# Altium schematic symbol library env_sens_sch.SchLib: 18 symbols
Pins are listed as number, name and electrical type; pins without a type are passive.

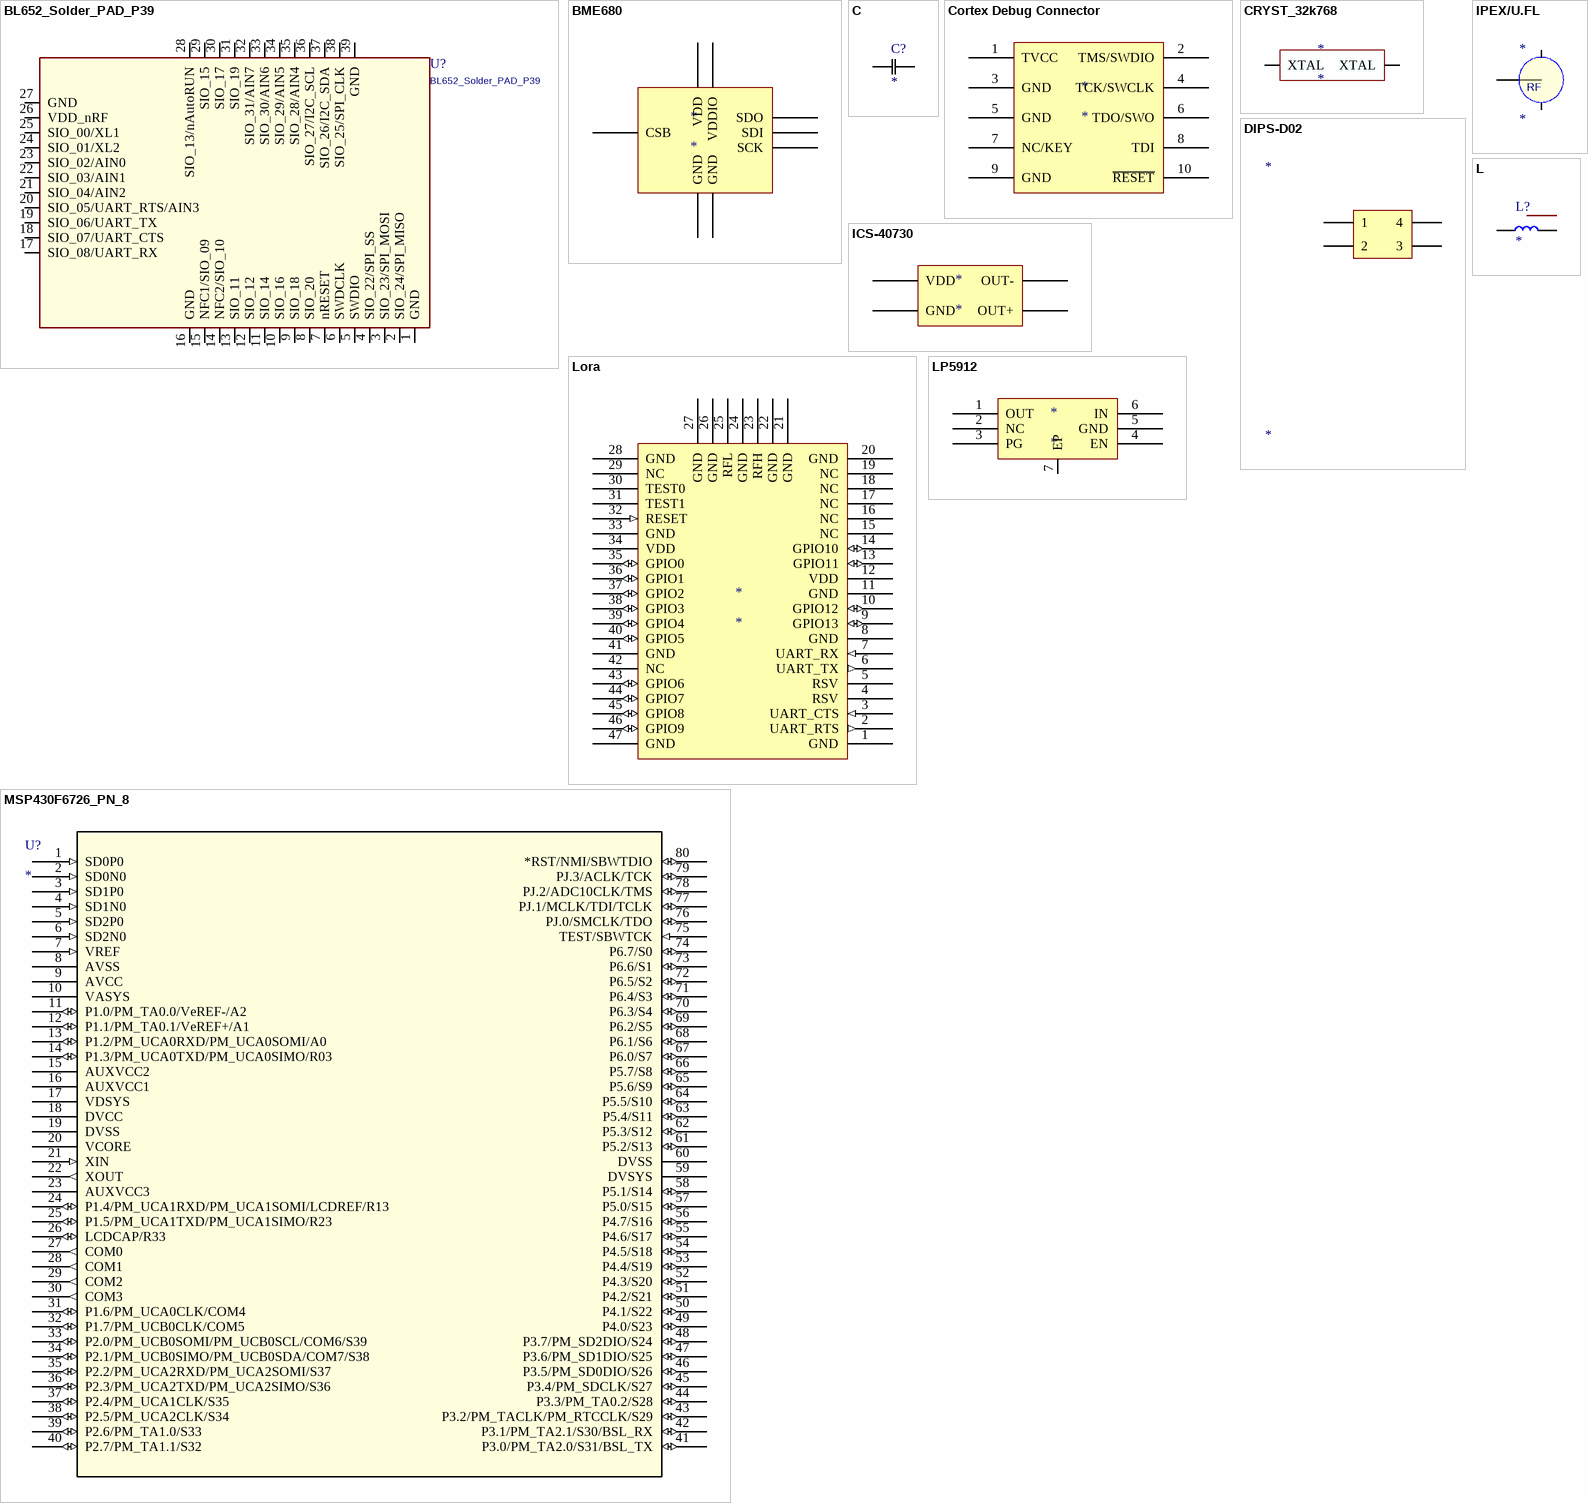
[diagram p0: symbols BL652_Solder_PAD_P39 to MSP430F6726_PN_8]

## BL652_Solder_PAD_P39
designator U?
BL652 Solder PAD; E Number: ?
footprint XCVR_BL652-SA-01
pins: 1 GND, 2 SIO_24/SPI_MISO, 3 SIO_23/SPI_MOSI, 4 SIO_22/SPI_SS, 5 SWDIO, 6 SWDCLK, 7 nRESET, 8 SIO_20, 9 SIO_18, 10 SIO_16, 11 SIO_14, 12 SIO_12, 13 SIO_11, 14 NFC2/SIO_10, 15 NFC1/SIO_09, 16 GND, 17 SIO_08/UART_RX, 18 SIO_07/UART_CTS, 19 SIO_06/UART_TX, 20 SIO_05/UART_RTS/AIN3, 21 SIO_04/AIN2, 22 SIO_03/AIN1, 23 SIO_02/AIN0, 24 SIO_01/XL2, 25 SIO_00/XL1, 26 VDD_nRF, 27 GND, 28 SIO_13/nAutoRUN, 29 SIO_15, 30 SIO_17, 31 SIO_19, 32 SIO_31/AIN7, 33 SIO_30/AIN6, 34 SIO_29/AIN5, 35 SIO_28/AIN4, 36 SIO_27/I2C_SCL, 37 SIO_26/I2C_SDA, 38 SIO_25/SPI_CLK, 39 GND

## BME680
designator *
footprint BME680
pins: 1 GND, 2 CSB, 3 SDI, 4 SCK, 5 SDO, 6 VDDIO, 7 GND, 8 VDD

## C
designator C?
Capacitor
footprint 402
footprint 805
footprint 1206
footprint 603
pins: 1, 2

## Cortex Debug Connector
designator *
footprint JTAG_HEADER
pins: 1 TVCC, 2 TMS/SWDIO, 3 GND, 4 TCK/SWCLK, 5 GND, 6 TDO/SWO, 7 NC/KEY, 8 TDI, 9 GND, 10 ~{RESET}

## CRYST_32k768
designator *
footprint CRYST 32.768 kHz
pins: 1 XTAL, 2 XTAL

## DIPS-D02
designator *
footprint DIPS-02
pins: 1, 2, 3, 4

## ICS-40730
designator *
footprint ICS-40730
pins: 1 VDD, 2 OUT-, 3 OUT+, 4 GND

## IPEX/U.FL
designator *
SMA PCB Edge Receptacle
footprint IPEX
pins: 1 RF, 2, 3

## L
designator L?
Inductor
footprint 3-0603 (Chip Resistor; Body 1.6 x 0.9 mm (LxW typ))
footprint 6-0805 (Chip Resistor; Body 2 x 1.2 mm (LxW typ))
footprint 1206
pins: 1, 2

## Lora
designator *
footprint RN2483
pins: 1 GND (power), 2 UART_RTS (out), 3 UART_CTS (in), 4 RSV, 5 RSV, 6 UART_TX (out), 7 UART_RX (in), 8 GND (power), 9 GPIO13 (io), 10 GPIO12 (io), 11 GND (power), 12 VDD, 13 GPIO11 (io), 14 GPIO10 (io), 15 NC, 16 NC, 17 NC, 18 NC, 19 NC, 20 GND (power), 21 GND (power), 22 GND (power), 23 RFH, 24 GND (power), 25 RFL, 26 GND (power), 27 GND (power), 28 GND (power), 29 NC, 30 TEST0, 31 TEST1, 32 RESET (in), 33 GND (power), 34 VDD (power), 35 GPIO0 (io), 36 GPIO1 (io), 37 GPIO2 (io), 38 GPIO3 (io), 39 GPIO4 (io), 40 GPIO5 (io), 41 GND (power), 42 NC, 43 GPIO6 (io), 44 GPIO7 (io), 45 GPIO8 (io), 46 GPIO9 (io), 47 GND (power)

## LP5912
designator *
footprint WSON-6
pins: 1 OUT, 2 NC, 3 PG, 4 EN, 5 GND, 6 IN, 7 EP

## MSP430F6726_PN_8
designator U?
Imported; Manufacturer_Part_Number: msp430f6726_pn_80; GENERIC_PART_NUMBER: MSP430F6726; Vendor: Texas Instruments; PACKAGE_DESIGNATOR: PN; PIN_COUNT: 80; FAMILY_NAME: 6 Series with LCD; INDUSTRY_STD_PKG_TYPE: LQFP; Manufacturer: Texas Instruments; Datasheet_URL: http://www.ti.com/lit/gpn/MSP430F6726; Value: Value; Type: Type; RefDes: RefDes
footprint PN80
footprint PN80-L
footprint PN80-M
pins: 1 SD0P0 (in), 2 SD0N0 (in), 3 SD1P0 (in), 4 SD1N0 (in), 5 SD2P0 (in), 6 SD2N0 (in), 7 VREF (in), 8 AVSS (power), 9 AVCC (power), 10 VASYS (power), 11 P1.0/PM_TA0.0/VeREF-/A2 (io), 12 P1.1/PM_TA0.1/VeREF+/A1 (io), 13 P1.2/PM_UCA0RXD/PM_UCA0SOMI/A0 (io), 14 P1.3/PM_UCA0TXD/PM_UCA0SIMO/R03 (io), 15 AUXVCC2 (power), 16 AUXVCC1 (power), 17 VDSYS (power), 18 DVCC (power), 19 DVSS (power), 20 VCORE (power), 21 XIN (in), 22 XOUT (out), 23 AUXVCC3 (power), 24 P1.4/PM_UCA1RXD/PM_UCA1SOMI/LCDREF/R13 (io), 25 P1.5/PM_UCA1TXD/PM_UCA1SIMO/R23 (io), 26 LCDCAP/R33 (io), 27 COM0 (out), 28 COM1 (out), 29 COM2 (out), 30 COM3 (out), 31 P1.6/PM_UCA0CLK/COM4 (io), 32 P1.7/PM_UCB0CLK/COM5 (io), 33 P2.0/PM_UCB0SOMI/PM_UCB0SCL/COM6/S39 (io), 34 P2.1/PM_UCB0SIMO/PM_UCB0SDA/COM7/S38 (io), 35 P2.2/PM_UCA2RXD/PM_UCA2SOMI/S37 (io), 36 P2.3/PM_UCA2TXD/PM_UCA2SIMO/S36 (io), 37 P2.4/PM_UCA1CLK/S35 (io), 38 P2.5/PM_UCA2CLK/S34 (io), 39 P2.6/PM_TA1.0/S33 (io), 40 P2.7/PM_TA1.1/S32 (io), 41 P3.0/PM_TA2.0/S31/BSL_TX (io), 42 P3.1/PM_TA2.1/S30/BSL_RX (io), 43 P3.2/PM_TACLK/PM_RTCCLK/S29 (io), 44 P3.3/PM_TA0.2/S28 (io), 45 P3.4/PM_SDCLK/S27 (io), 46 P3.5/PM_SD0DIO/S26 (io), 47 P3.6/PM_SD1DIO/S25 (io), 48 P3.7/PM_SD2DIO/S24 (io), 49 P4.0/S23 (io), 50 P4.1/S22 (io), 51 P4.2/S21 (io), 52 P4.3/S20 (io), 53 P4.4/S19 (io), 54 P4.5/S18 (io), 55 P4.6/S17 (io), 56 P4.7/S16 (io), 57 P5.0/S15 (io), 58 P5.1/S14 (io), 59 DVSYS (power), 60 DVSS (power), 61 P5.2/S13 (io), 62 P5.3/S12 (io), 63 P5.4/S11 (io), 64 P5.5/S10 (io), 65 P5.6/S9 (io), 66 P5.7/S8 (io), 67 P6.0/S7 (io), 68 P6.1/S6 (io), 69 P6.2/S5 (io), 70 P6.3/S4 (io), 71 P6.4/S3 (io), 72 P6.5/S2 (io), 73 P6.6/S1 (io), 74 P6.7/S0 (io), 75 TEST/SBWTCK (in), 76 PJ.0/SMCLK/TDO (io), 77 PJ.1/MCLK/TDI/TCLK (io), 78 PJ.2/ADC10CLK/TMS (io), 79 PJ.3/ACLK/TCK (io), 80 *RST/NMI/SBWTDIO (io)

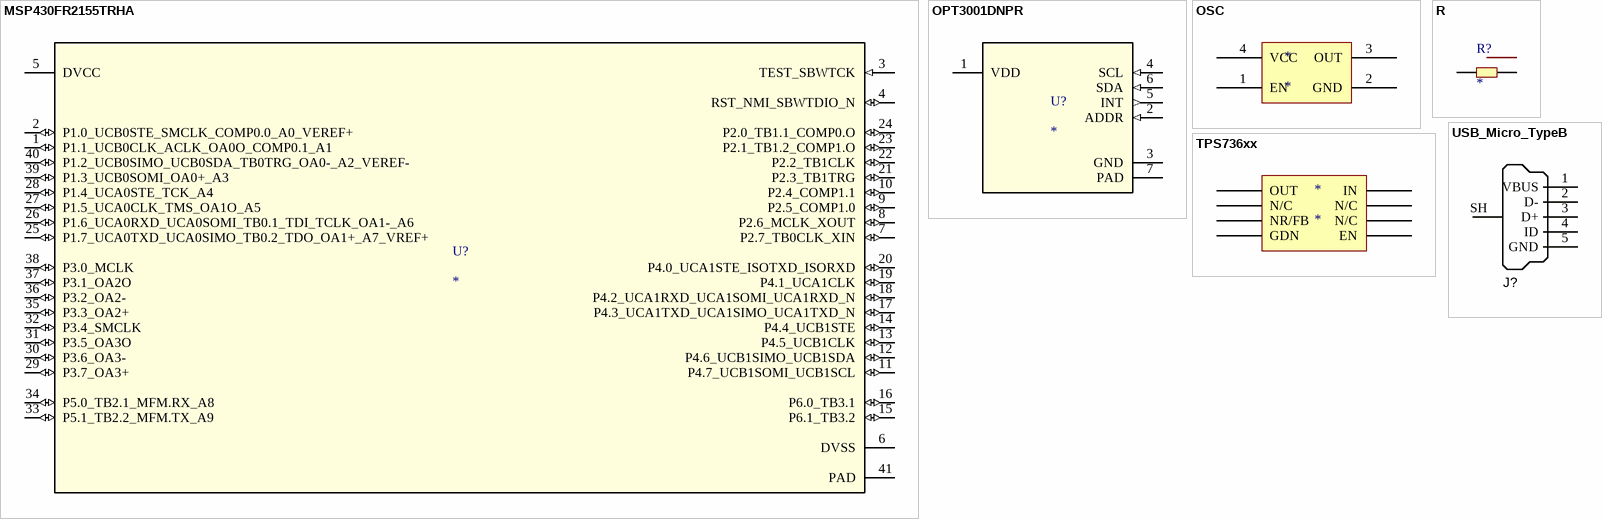
[diagram p1: symbols MSP430FR2155TRHA to USB_Micro_TypeB]

## MSP430FR2155TRHA
designator U?
Imported; Manufacturer: Texas Instruments; PartNumber: MSP430FR2355TRHAR; RefDes: RefDes; TYPE: TYPE; Value: Value
footprint RHA0040E_NV
pins: 1 P1.1_UCB0CLK_ACLK_OA0O_COMP0.1_A1 (io), 2 P1.0_UCB0STE_SMCLK_COMP0.0_A0_VEREF+ (io), 3 TEST_SBWTCK (in), 4 RST_NMI_SBWTDIO_N (io), 5 DVCC (power), 6 DVSS (power), 7 P2.7_TB0CLK_XIN (io), 8 P2.6_MCLK_XOUT (io), 9 P2.5_COMP1.0 (io), 10 P2.4_COMP1.1 (io), 11 P4.7_UCB1SOMI_UCB1SCL (io), 12 P4.6_UCB1SIMO_UCB1SDA (io), 13 P4.5_UCB1CLK (io), 14 P4.4_UCB1STE (io), 15 P6.1_TB3.2 (io), 16 P6.0_TB3.1 (io), 17 P4.3_UCA1TXD_UCA1SIMO_UCA1TXD_N (io), 18 P4.2_UCA1RXD_UCA1SOMI_UCA1RXD_N (io), 19 P4.1_UCA1CLK (io), 20 P4.0_UCA1STE_ISOTXD_ISORXD (io), 21 P2.3_TB1TRG (io), 22 P2.2_TB1CLK (io), 23 P2.1_TB1.2_COMP1.O (io), 24 P2.0_TB1.1_COMP0.O (io), 25 P1.7_UCA0TXD_UCA0SIMO_TB0.2_TDO_OA1+_A7_VREF+ (io), 26 P1.6_UCA0RXD_UCA0SOMI_TB0.1_TDI_TCLK_OA1-_A6 (io), 27 P1.5_UCA0CLK_TMS_OA1O_A5 (io), 28 P1.4_UCA0STE_TCK_A4 (io), 29 P3.7_OA3+ (io), 30 P3.6_OA3- (io), 31 P3.5_OA3O (io), 32 P3.4_SMCLK (io), 33 P5.1_TB2.2_MFM.TX_A9 (io), 34 P5.0_TB2.1_MFM.RX_A8 (io), 35 P3.3_OA2+ (io), 36 P3.2_OA2- (io), 37 P3.1_OA2O (io), 38 P3.0_MCLK (io), 39 P1.3_UCB0SOMI_OA0+_A3 (io), 40 P1.2_UCB0SIMO_UCB0SDA_TB0TRG_OA0-_A2_VEREF- (io), 41 PAD

## OPT3001DNPR
designator U?
Imported; PartNumber: OPT3001DNP; Manufacturer: Texas Instruments; CompType: IC; PIN_COUNT: 7; Application_BuildNumber: *; PackageReference: DNP0006A; MountType: SMT; RoHS: Y; RefDes: RefDes; TYPE: TYPE; Value: Value
footprint DNP0006A
pins: 1 VDD (power), 2 ADDR (in), 3 GND (power), 4 SCL (in), 5 INT (out), 6 SDA (in), 7 PAD

## OSC
designator *
footprint CRYST_3.4x2.7
footprint CRYST_7x5
footprint CRYST_5x3.2
footprint CRYST_all
pins: 1 EN, 2 GND, 3 OUT, 4 VCC

## R
designator R?
Resistor
footprint 402
footprint 603
footprint 805
footprint 1206
pins: 1, 2

## TPS736xx
designator *
footprint TPS736xx
footprint TPS736xx
pins: 1 OUT, 2 N/C, 3 NR/FB, 4 GDN, 5 EN, 6 N/C, 7 N/C, 8 IN

## USB_Micro_TypeB
designator J?, comment USB Micro Type B  (value not drawn)
Connector SMD USB Micro Type B middle mount; Manufacturer 1: Molex Inc; SCDType: undef; Package / Case: SMD; Supplier 1: Digi-Key; Supplier Part Number 1: WM17142CT-ND
footprint USB_Micro-B_Molex_SMD
footprint USB_Micro-B
pins: 1 VBUS, 2 D-, 3 D+, 4 ID, 5 GND, SH Shell